# Altium schematic symbol library 2D237B3BB.Schlib: 1 symbol
Pins are listed as number, name and electrical type; pins without a type are passive.

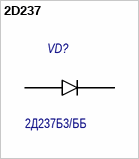
[diagram p0: symbol 2D237]

## 2D237
designator VD?, comment 2Д237Б3/ББ
Сдвоенный диод; Назначение: Высоковольтный диод; Потребление, Вт: 0,004; Максимальный ток, А: 1; Максимальное обратное напряжение , В: 200; ComponentLink1Description: DataSheet; ComponentLink1URL: https://eandc.ru/pdf/diod/2d222.pdf; Наименование: 2Д237Б3/ББ
footprint KT-99-1
pins: 1, 3